# Altium footprint library Connector_Molex.PcbLib: 815 footprints (part 4 of 51)
Each footprint in its own frame and in the unit in brackets; x right, y up, seen from the top. Pads: shape width x height; smd on the part's side, far side on the other; paste and mask are expansions set on the pad; w line width, h text height; cw(c..) or ccw(c..) is an arc to the next point about the centre after c.
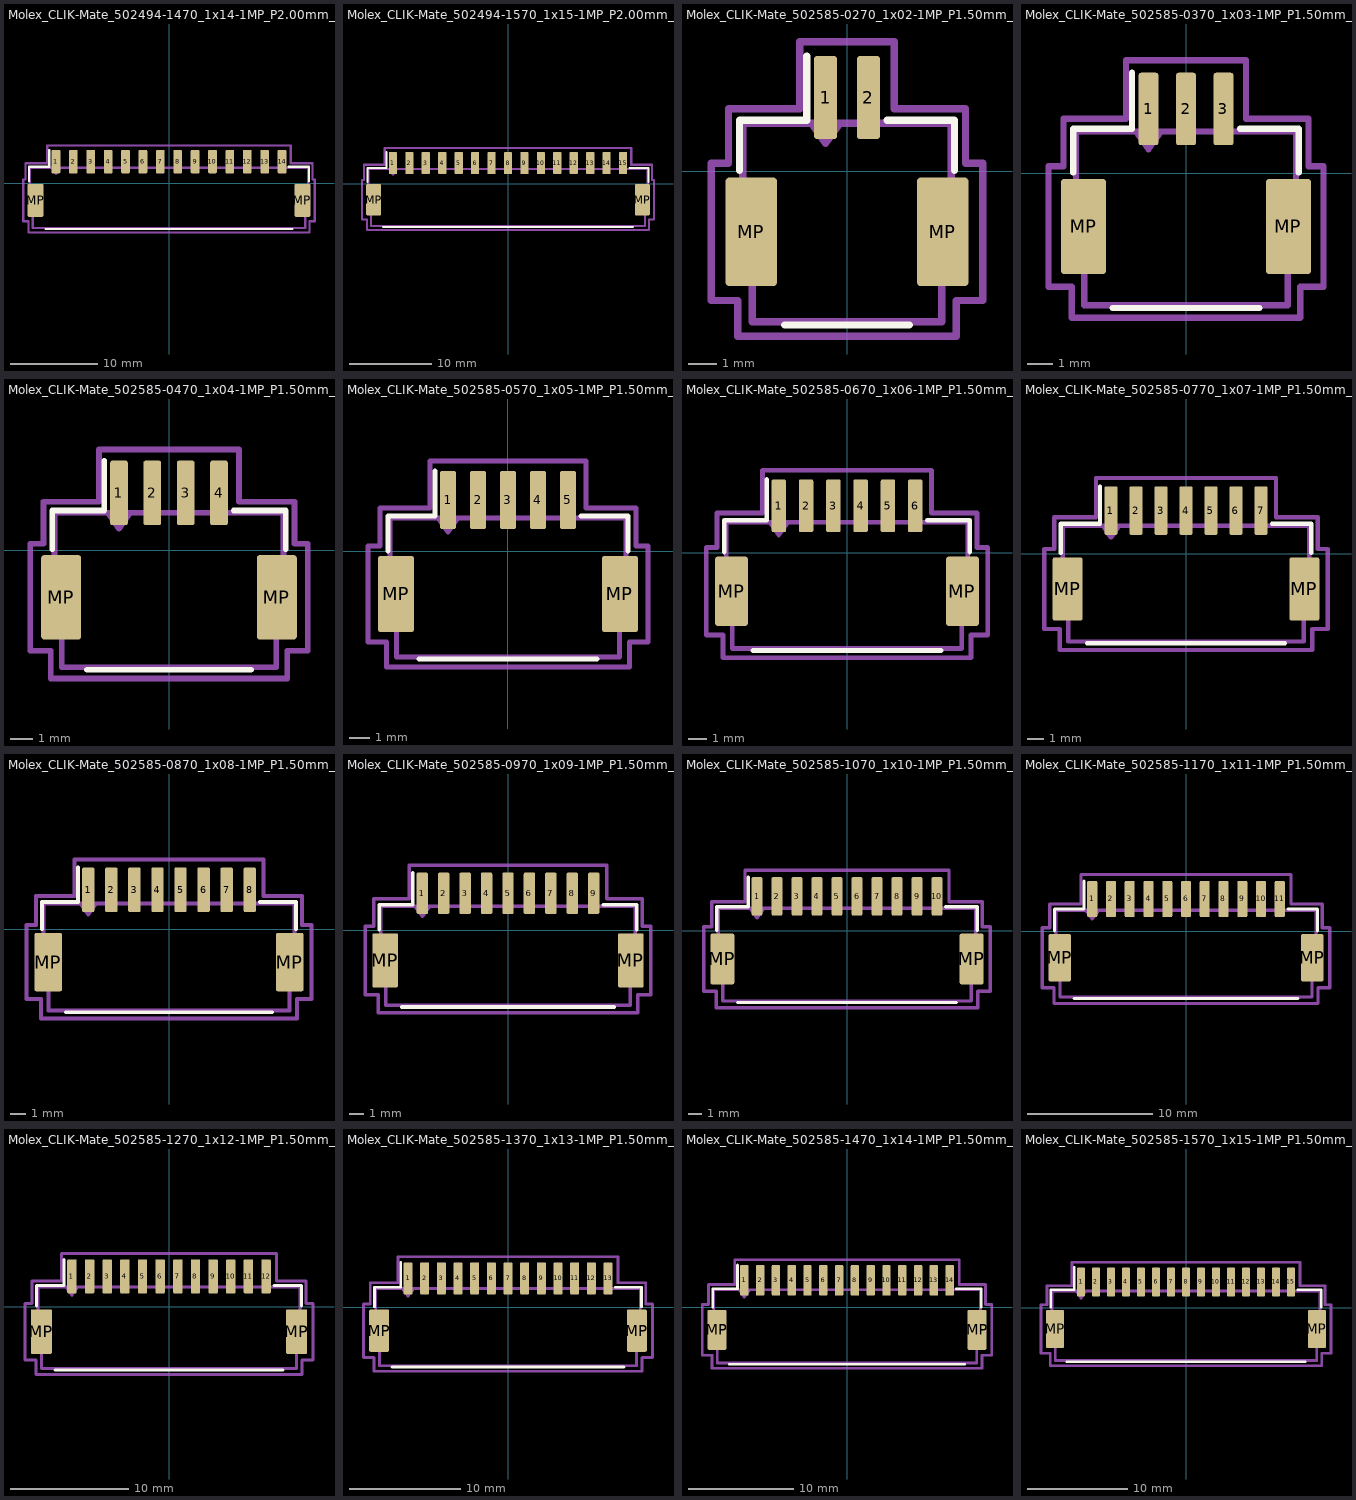
[diagram p3: the footprints below, top view; thin cyan lines are the x and y axes]

## Molex_CLIK-Mate_502494-1470_1x14-1MP_P2.00mm_Horizontal [mm]
pads (16):
  rrect25% 1x2.7 smd: 1(-13,2.5) 2(-11,2.5) 3(-9,2.5) 4(-7,2.5) 5(-5,2.5) 6(-3,2.5) 7(-1,2.5) 8(1,2.5) 9(3,2.5) 10(5,2.5) 11(7,2.5) 12(9,2.5) 13(11,2.5) 14(13,2.5)
  rrect14% 1.8x3.8 smd: MP(-15.35,-1.95) MP(15.35,-1.95)
F.SilkS:
  lines w0.254: -16.11,0.21 -16.11,1.91 -13.76,1.91 -13.76,3.85 ; -14.19,-5.26 14.19,-5.26 ; 13.76,1.91 16.11,1.91 16.11,0.21
Top Assembly:
  lines w0.254: -13.5,1.8 -13,1.093 -12.5,1.8 ; -16,-2.55 -15.67,-2.55 -15.67,-5.15 15.67,-5.15 15.67,-2.55 16,-2.55 16,1.8 -16,1.8 -16,-2.55
  text "'.Designator'" at -4.047,-1.22 h1
Top Courtyard:
  lines w0.254: -16.75,-4.35 -16.17,-4.35 -16.17,-5.65 16.17,-5.65 16.17,-4.35 16.75,-4.35 16.75,0.45 16.5,0.45 16.5,2.3 14,2.3 14,4.35 -14,4.35 -14,2.3 -16.5,2.3 -16.5,0.45 -16.75,0.45 -16.75,-4.35
Top Designator:
  text ".Designator" at -7.618,-1.158 h1.52

## Molex_CLIK-Mate_502494-1570_1x15-1MP_P2.00mm_Horizontal [mm]
pads (17):
  rrect25% 1x2.7 smd: 1(-14,2.5) 2(-12,2.5) 3(-10,2.5) 4(-8,2.5) 5(-6,2.5) 6(-4,2.5) 7(-2,2.5) 8(0,2.5) 9(2,2.5) 10(4,2.5) 11(6,2.5) 12(8,2.5) 13(10,2.5) 14(12,2.5) 15(14,2.5)
  rrect14% 1.8x3.8 smd: MP(-16.35,-1.95) MP(16.35,-1.95)
F.SilkS:
  lines w0.254: -17.11,0.21 -17.11,1.91 -14.76,1.91 -14.76,3.85 ; -15.19,-5.26 15.19,-5.26 ; 14.76,1.91 17.11,1.91 17.11,0.21
Top Assembly:
  lines w0.254: -14.5,1.8 -14,1.093 -13.5,1.8 ; -17,-2.55 -16.67,-2.55 -16.67,-5.15 16.67,-5.15 16.67,-2.55 17,-2.55 17,1.8 -17,1.8 -17,-2.55
  text "'.Designator'" at -4.047,-1.22 h1
Top Courtyard:
  lines w0.254: -17.75,-4.35 -17.17,-4.35 -17.17,-5.65 17.17,-5.65 17.17,-4.35 17.75,-4.35 17.75,0.45 17.5,0.45 17.5,2.3 15,2.3 15,4.35 -15,4.35 -15,2.3 -17.5,2.3 -17.5,0.45 -17.75,0.45 -17.75,-4.35
Top Designator:
  text ".Designator" at -7.618,-1.158 h1.52

## Molex_CLIK-Mate_502585-0270_1x02-1MP_P1.50mm_Horizontal [mm]
pads (4):
  rrect25% 0.8x2.9 smd: 1(-0.75,2.575) 2(0.75,2.575)
  rrect14% 1.8x3.8 smd: MP(-3.35,-2.125) MP(3.35,-2.125)
F.SilkS:
  lines w0.254: -3.76,0.035 -3.76,1.785 -1.41,1.785 -1.41,4.025 ; -2.19,-5.385 2.19,-5.385 ; 1.41,1.785 3.76,1.785 3.76,0.035
Top Assembly:
  lines w0.254: -1.25,1.675 -0.75,0.968 -0.25,1.675 ; -3.65,-2.675 -3.32,-2.675 -3.32,-5.275 3.32,-5.275 3.32,-2.675 3.65,-2.675 3.65,1.675 -3.65,1.675 -3.65,-2.675
  text "'.Designator'" at -4.047,-1.34 h1
Top Courtyard:
  lines w0.254: -4.75,-4.53 -3.82,-4.53 -3.82,-5.78 3.82,-5.78 3.82,-4.53 4.75,-4.53 4.75,0.28 4.15,0.28 4.15,2.18 1.65,2.18 1.65,4.53 -1.65,4.53 -1.65,2.18 -4.15,2.18 -4.15,0.28 -4.75,0.28 -4.75,-4.53
Top Designator:
  text ".Designator" at -7.618,-1.133 h1.52

## Molex_CLIK-Mate_502585-0370_1x03-1MP_P1.50mm_Horizontal [mm]
pads (5):
  rrect25% 0.8x2.9 smd: 1(-1.5,2.575) 2(0,2.575) 3(1.5,2.575)
  rrect14% 1.8x3.8 smd: MP(-4.1,-2.125) MP(4.1,-2.125)
F.SilkS:
  lines w0.254: -4.51,0.035 -4.51,1.785 -2.16,1.785 -2.16,4.025 ; -2.94,-5.385 2.94,-5.385 ; 2.16,1.785 4.51,1.785 4.51,0.035
Top Assembly:
  lines w0.254: -2,1.675 -1.5,0.968 -1,1.675 ; -4.4,-2.675 -4.07,-2.675 -4.07,-5.275 4.07,-5.275 4.07,-2.675 4.4,-2.675 4.4,1.675 -4.4,1.675 -4.4,-2.675
  text "'.Designator'" at -4.047,-1.34 h1
Top Courtyard:
  lines w0.254: -5.5,-4.53 -4.57,-4.53 -4.57,-5.78 4.57,-5.78 4.57,-4.53 5.5,-4.53 5.5,0.28 4.9,0.28 4.9,2.18 2.4,2.18 2.4,4.53 -2.4,4.53 -2.4,2.18 -4.9,2.18 -4.9,0.28 -5.5,0.28 -5.5,-4.53
Top Designator:
  text ".Designator" at -7.618,-1.133 h1.52

## Molex_CLIK-Mate_502585-0470_1x04-1MP_P1.50mm_Horizontal [mm]
pads (6):
  rrect25% 0.8x2.9 smd: 1(-2.25,2.575) 2(-0.75,2.575) 3(0.75,2.575) 4(2.25,2.575)
  rrect14% 1.8x3.8 smd: MP(-4.85,-2.125) MP(4.85,-2.125)
F.SilkS:
  lines w0.254: -5.26,0.035 -5.26,1.785 -2.91,1.785 -2.91,4.025 ; -3.69,-5.385 3.69,-5.385 ; 2.91,1.785 5.26,1.785 5.26,0.035
Top Assembly:
  lines w0.254: -2.75,1.675 -2.25,0.968 -1.75,1.675 ; -5.15,-2.675 -4.82,-2.675 -4.82,-5.275 4.82,-5.275 4.82,-2.675 5.15,-2.675 5.15,1.675 -5.15,1.675 -5.15,-2.675
  text "'.Designator'" at -4.047,-1.34 h1
Top Courtyard:
  lines w0.254: -6.25,-4.53 -5.32,-4.53 -5.32,-5.78 5.32,-5.78 5.32,-4.53 6.25,-4.53 6.25,0.28 5.65,0.28 5.65,2.18 3.15,2.18 3.15,4.53 -3.15,4.53 -3.15,2.18 -5.65,2.18 -5.65,0.28 -6.25,0.28 -6.25,-4.53
Top Designator:
  text ".Designator" at -7.618,-1.133 h1.52

## Molex_CLIK-Mate_502585-0570_1x05-1MP_P1.50mm_Horizontal [mm]
pads (7):
  rrect25% 0.8x2.9 smd: 1(-3,2.575) 2(-1.5,2.575) 3(0,2.575) 4(1.5,2.575) 5(3,2.575)
  rrect14% 1.8x3.8 smd: MP(-5.6,-2.125) MP(5.6,-2.125)
F.SilkS:
  lines w0.254: -6.01,0.035 -6.01,1.785 -3.66,1.785 -3.66,4.025 ; -4.44,-5.385 4.44,-5.385 ; 3.66,1.785 6.01,1.785 6.01,0.035
Top Assembly:
  lines w0.254: -3.5,1.675 -3,0.968 -2.5,1.675 ; -5.9,-2.675 -5.57,-2.675 -5.57,-5.275 5.57,-5.275 5.57,-2.675 5.9,-2.675 5.9,1.675 -5.9,1.675 -5.9,-2.675
  text "'.Designator'" at -4.047,-1.34 h1
Top Courtyard:
  lines w0.254: -7,-4.53 -6.07,-4.53 -6.07,-5.78 6.07,-5.78 6.07,-4.53 7,-4.53 7,0.28 6.4,0.28 6.4,2.18 3.9,2.18 3.9,4.53 -3.9,4.53 -3.9,2.18 -6.4,2.18 -6.4,0.28 -7,0.28 -7,-4.53
Top Designator:
  text ".Designator" at -7.618,-1.133 h1.52

## Molex_CLIK-Mate_502585-0670_1x06-1MP_P1.50mm_Horizontal [mm]
pads (8):
  rrect25% 0.8x2.9 smd: 1(-3.75,2.575) 2(-2.25,2.575) 3(-0.75,2.575) 4(0.75,2.575) 5(2.25,2.575) 6(3.75,2.575)
  rrect14% 1.8x3.8 smd: MP(-6.35,-2.125) MP(6.35,-2.125)
F.SilkS:
  lines w0.254: -6.76,0.035 -6.76,1.785 -4.41,1.785 -4.41,4.025 ; -5.19,-5.385 5.19,-5.385 ; 4.41,1.785 6.76,1.785 6.76,0.035
Top Assembly:
  lines w0.254: -4.25,1.675 -3.75,0.968 -3.25,1.675 ; -6.65,-2.675 -6.32,-2.675 -6.32,-5.275 6.32,-5.275 6.32,-2.675 6.65,-2.675 6.65,1.675 -6.65,1.675 -6.65,-2.675
  text "'.Designator'" at -4.047,-1.34 h1
Top Courtyard:
  lines w0.254: -7.75,-4.53 -6.82,-4.53 -6.82,-5.78 6.82,-5.78 6.82,-4.53 7.75,-4.53 7.75,0.28 7.15,0.28 7.15,2.18 4.65,2.18 4.65,4.53 -4.65,4.53 -4.65,2.18 -7.15,2.18 -7.15,0.28 -7.75,0.28 -7.75,-4.53
Top Designator:
  text ".Designator" at -7.618,-1.133 h1.52

## Molex_CLIK-Mate_502585-0770_1x07-1MP_P1.50mm_Horizontal [mm]
pads (9):
  rrect25% 0.8x2.9 smd: 1(-4.5,2.575) 2(-3,2.575) 3(-1.5,2.575) 4(0,2.575) 5(1.5,2.575) 6(3,2.575) 7(4.5,2.575)
  rrect14% 1.8x3.8 smd: MP(-7.1,-2.125) MP(7.1,-2.125)
F.SilkS:
  lines w0.254: -7.51,0.035 -7.51,1.785 -5.16,1.785 -5.16,4.025 ; -5.94,-5.385 5.94,-5.385 ; 5.16,1.785 7.51,1.785 7.51,0.035
Top Assembly:
  lines w0.254: -5,1.675 -4.5,0.968 -4,1.675 ; -7.4,-2.675 -7.07,-2.675 -7.07,-5.275 7.07,-5.275 7.07,-2.675 7.4,-2.675 7.4,1.675 -7.4,1.675 -7.4,-2.675
  text "'.Designator'" at -4.047,-1.34 h1
Top Courtyard:
  lines w0.254: -8.5,-4.53 -7.57,-4.53 -7.57,-5.78 7.57,-5.78 7.57,-4.53 8.5,-4.53 8.5,0.28 7.9,0.28 7.9,2.18 5.4,2.18 5.4,4.53 -5.4,4.53 -5.4,2.18 -7.9,2.18 -7.9,0.28 -8.5,0.28 -8.5,-4.53
Top Designator:
  text ".Designator" at -7.618,-1.133 h1.52

## Molex_CLIK-Mate_502585-0870_1x08-1MP_P1.50mm_Horizontal [mm]
pads (10):
  rrect25% 0.8x2.9 smd: 1(-5.25,2.575) 2(-3.75,2.575) 3(-2.25,2.575) 4(-0.75,2.575) 5(0.75,2.575) 6(2.25,2.575) 7(3.75,2.575) 8(5.25,2.575)
  rrect14% 1.8x3.8 smd: MP(-7.85,-2.125) MP(7.85,-2.125)
F.SilkS:
  lines w0.254: -8.26,0.035 -8.26,1.785 -5.91,1.785 -5.91,4.025 ; -6.69,-5.385 6.69,-5.385 ; 5.91,1.785 8.26,1.785 8.26,0.035
Top Assembly:
  lines w0.254: -5.75,1.675 -5.25,0.968 -4.75,1.675 ; -8.15,-2.675 -7.82,-2.675 -7.82,-5.275 7.82,-5.275 7.82,-2.675 8.15,-2.675 8.15,1.675 -8.15,1.675 -8.15,-2.675
  text "'.Designator'" at -4.047,-1.34 h1
Top Courtyard:
  lines w0.254: -9.25,-4.53 -8.32,-4.53 -8.32,-5.78 8.32,-5.78 8.32,-4.53 9.25,-4.53 9.25,0.28 8.65,0.28 8.65,2.18 6.15,2.18 6.15,4.53 -6.15,4.53 -6.15,2.18 -8.65,2.18 -8.65,0.28 -9.25,0.28 -9.25,-4.53
Top Designator:
  text ".Designator" at -7.618,-1.133 h1.52

## Molex_CLIK-Mate_502585-0970_1x09-1MP_P1.50mm_Horizontal [mm]
pads (11):
  rrect25% 0.8x2.9 smd: 1(-6,2.575) 2(-4.5,2.575) 3(-3,2.575) 4(-1.5,2.575) 5(0,2.575) 6(1.5,2.575) 7(3,2.575) 8(4.5,2.575) 9(6,2.575)
  rrect14% 1.8x3.8 smd: MP(-8.6,-2.125) MP(8.6,-2.125)
F.SilkS:
  lines w0.254: -9.01,0.035 -9.01,1.785 -6.66,1.785 -6.66,4.025 ; -7.44,-5.385 7.44,-5.385 ; 6.66,1.785 9.01,1.785 9.01,0.035
Top Assembly:
  lines w0.254: -6.5,1.675 -6,0.968 -5.5,1.675 ; -8.9,-2.675 -8.57,-2.675 -8.57,-5.275 8.57,-5.275 8.57,-2.675 8.9,-2.675 8.9,1.675 -8.9,1.675 -8.9,-2.675
  text "'.Designator'" at -4.047,-1.34 h1
Top Courtyard:
  lines w0.254: -10,-4.53 -9.07,-4.53 -9.07,-5.78 9.07,-5.78 9.07,-4.53 10,-4.53 10,0.28 9.4,0.28 9.4,2.18 6.9,2.18 6.9,4.53 -6.9,4.53 -6.9,2.18 -9.4,2.18 -9.4,0.28 -10,0.28 -10,-4.53
Top Designator:
  text ".Designator" at -7.618,-1.133 h1.52

## Molex_CLIK-Mate_502585-1070_1x10-1MP_P1.50mm_Horizontal [mm]
pads (12):
  rrect25% 0.8x2.9 smd: 1(-6.75,2.575) 2(-5.25,2.575) 3(-3.75,2.575) 4(-2.25,2.575) 5(-0.75,2.575) 6(0.75,2.575) 7(2.25,2.575) 8(3.75,2.575) 9(5.25,2.575) 10(6.75,2.575)
  rrect14% 1.8x3.8 smd: MP(-9.35,-2.125) MP(9.35,-2.125)
F.SilkS:
  lines w0.254: -9.76,0.035 -9.76,1.785 -7.41,1.785 -7.41,4.025 ; -8.19,-5.385 8.19,-5.385 ; 7.41,1.785 9.76,1.785 9.76,0.035
Top Assembly:
  lines w0.254: -7.25,1.675 -6.75,0.968 -6.25,1.675 ; -9.65,-2.675 -9.32,-2.675 -9.32,-5.275 9.32,-5.275 9.32,-2.675 9.65,-2.675 9.65,1.675 -9.65,1.675 -9.65,-2.675
  text "'.Designator'" at -4.047,-1.34 h1
Top Courtyard:
  lines w0.254: -10.75,-4.53 -9.82,-4.53 -9.82,-5.78 9.82,-5.78 9.82,-4.53 10.75,-4.53 10.75,0.28 10.15,0.28 10.15,2.18 7.65,2.18 7.65,4.53 -7.65,4.53 -7.65,2.18 -10.15,2.18 -10.15,0.28 -10.75,0.28 -10.75,-4.53
Top Designator:
  text ".Designator" at -7.618,-1.133 h1.52

## Molex_CLIK-Mate_502585-1170_1x11-1MP_P1.50mm_Horizontal [mm]
pads (13):
  rrect25% 0.8x2.9 smd: 1(-7.5,2.575) 2(-6,2.575) 3(-4.5,2.575) 4(-3,2.575) 5(-1.5,2.575) 6(0,2.575) 7(1.5,2.575) 8(3,2.575) 9(4.5,2.575) 10(6,2.575) 11(7.5,2.575)
  rrect14% 1.8x3.8 smd: MP(-10.1,-2.125) MP(10.1,-2.125)
F.SilkS:
  lines w0.254: -10.51,0.035 -10.51,1.785 -8.16,1.785 -8.16,4.025 ; -8.94,-5.385 8.94,-5.385 ; 8.16,1.785 10.51,1.785 10.51,0.035
Top Assembly:
  lines w0.254: -8,1.675 -7.5,0.968 -7,1.675 ; -10.4,-2.675 -10.07,-2.675 -10.07,-5.275 10.07,-5.275 10.07,-2.675 10.4,-2.675 10.4,1.675 -10.4,1.675 -10.4,-2.675
  text "'.Designator'" at -4.047,-1.34 h1
Top Courtyard:
  lines w0.254: -11.5,-4.53 -10.57,-4.53 -10.57,-5.78 10.57,-5.78 10.57,-4.53 11.5,-4.53 11.5,0.28 10.9,0.28 10.9,2.18 8.4,2.18 8.4,4.53 -8.4,4.53 -8.4,2.18 -10.9,2.18 -10.9,0.28 -11.5,0.28 -11.5,-4.53
Top Designator:
  text ".Designator" at -7.618,-1.133 h1.52

## Molex_CLIK-Mate_502585-1270_1x12-1MP_P1.50mm_Horizontal [mm]
pads (14):
  rrect25% 0.8x2.9 smd: 1(-8.25,2.575) 2(-6.75,2.575) 3(-5.25,2.575) 4(-3.75,2.575) 5(-2.25,2.575) 6(-0.75,2.575) 7(0.75,2.575) 8(2.25,2.575) 9(3.75,2.575) 10(5.25,2.575) 11(6.75,2.575) 12(8.25,2.575)
  rrect14% 1.8x3.8 smd: MP(-10.85,-2.125) MP(10.85,-2.125)
F.SilkS:
  lines w0.254: -11.26,0.035 -11.26,1.785 -8.91,1.785 -8.91,4.025 ; -9.69,-5.385 9.69,-5.385 ; 8.91,1.785 11.26,1.785 11.26,0.035
Top Assembly:
  lines w0.254: -8.75,1.675 -8.25,0.968 -7.75,1.675 ; -11.15,-2.675 -10.82,-2.675 -10.82,-5.275 10.82,-5.275 10.82,-2.675 11.15,-2.675 11.15,1.675 -11.15,1.675 -11.15,-2.675
  text "'.Designator'" at -4.047,-1.34 h1
Top Courtyard:
  lines w0.254: -12.25,-4.53 -11.32,-4.53 -11.32,-5.78 11.32,-5.78 11.32,-4.53 12.25,-4.53 12.25,0.28 11.65,0.28 11.65,2.18 9.15,2.18 9.15,4.53 -9.15,4.53 -9.15,2.18 -11.65,2.18 -11.65,0.28 -12.25,0.28 -12.25,-4.53
Top Designator:
  text ".Designator" at -7.618,-1.133 h1.52

## Molex_CLIK-Mate_502585-1370_1x13-1MP_P1.50mm_Horizontal [mm]
pads (15):
  rrect25% 0.8x2.9 smd: 1(-9,2.575) 2(-7.5,2.575) 3(-6,2.575) 4(-4.5,2.575) 5(-3,2.575) 6(-1.5,2.575) 7(0,2.575) 8(1.5,2.575) 9(3,2.575) 10(4.5,2.575) 11(6,2.575) 12(7.5,2.575) 13(9,2.575)
  rrect14% 1.8x3.8 smd: MP(-11.6,-2.125) MP(11.6,-2.125)
F.SilkS:
  lines w0.254: -12.01,0.035 -12.01,1.785 -9.66,1.785 -9.66,4.025 ; -10.44,-5.385 10.44,-5.385 ; 9.66,1.785 12.01,1.785 12.01,0.035
Top Assembly:
  lines w0.254: -9.5,1.675 -9,0.968 -8.5,1.675 ; -11.9,-2.675 -11.57,-2.675 -11.57,-5.275 11.57,-5.275 11.57,-2.675 11.9,-2.675 11.9,1.675 -11.9,1.675 -11.9,-2.675
  text "'.Designator'" at -4.047,-1.34 h1
Top Courtyard:
  lines w0.254: -13,-4.53 -12.07,-4.53 -12.07,-5.78 12.07,-5.78 12.07,-4.53 13,-4.53 13,0.28 12.4,0.28 12.4,2.18 9.9,2.18 9.9,4.53 -9.9,4.53 -9.9,2.18 -12.4,2.18 -12.4,0.28 -13,0.28 -13,-4.53
Top Designator:
  text ".Designator" at -7.618,-1.133 h1.52

## Molex_CLIK-Mate_502585-1470_1x14-1MP_P1.50mm_Horizontal [mm]
pads (16):
  rrect25% 0.8x2.9 smd: 1(-9.75,2.575) 2(-8.25,2.575) 3(-6.75,2.575) 4(-5.25,2.575) 5(-3.75,2.575) 6(-2.25,2.575) 7(-0.75,2.575) 8(0.75,2.575) 9(2.25,2.575) 10(3.75,2.575) 11(5.25,2.575) 12(6.75,2.575) 13(8.25,2.575) 14(9.75,2.575)
  rrect14% 1.8x3.8 smd: MP(-12.35,-2.125) MP(12.35,-2.125)
F.SilkS:
  lines w0.254: -12.76,0.035 -12.76,1.785 -10.41,1.785 -10.41,4.025 ; -11.19,-5.385 11.19,-5.385 ; 10.41,1.785 12.76,1.785 12.76,0.035
Top Assembly:
  lines w0.254: -10.25,1.675 -9.75,0.968 -9.25,1.675 ; -12.65,-2.675 -12.32,-2.675 -12.32,-5.275 12.32,-5.275 12.32,-2.675 12.65,-2.675 12.65,1.675 -12.65,1.675 -12.65,-2.675
  text "'.Designator'" at -4.047,-1.34 h1
Top Courtyard:
  lines w0.254: -13.75,-4.53 -12.82,-4.53 -12.82,-5.78 12.82,-5.78 12.82,-4.53 13.75,-4.53 13.75,0.28 13.15,0.28 13.15,2.18 10.65,2.18 10.65,4.53 -10.65,4.53 -10.65,2.18 -13.15,2.18 -13.15,0.28 -13.75,0.28 -13.75,-4.53
Top Designator:
  text ".Designator" at -7.618,-1.133 h1.52

## Molex_CLIK-Mate_502585-1570_1x15-1MP_P1.50mm_Horizontal [mm]
pads (17):
  rrect25% 0.8x2.9 smd: 1(-10.5,2.575) 2(-9,2.575) 3(-7.5,2.575) 4(-6,2.575) 5(-4.5,2.575) 6(-3,2.575) 7(-1.5,2.575) 8(0,2.575) 9(1.5,2.575) 10(3,2.575) 11(4.5,2.575) 12(6,2.575) 13(7.5,2.575) 14(9,2.575) 15(10.5,2.575)
  rrect14% 1.8x3.8 smd: MP(-13.1,-2.125) MP(13.1,-2.125)
F.SilkS:
  lines w0.254: -13.51,0.035 -13.51,1.785 -11.16,1.785 -11.16,4.025 ; -11.94,-5.385 11.94,-5.385 ; 11.16,1.785 13.51,1.785 13.51,0.035
Top Assembly:
  lines w0.254: -11,1.675 -10.5,0.968 -10,1.675 ; -13.4,-2.675 -13.07,-2.675 -13.07,-5.275 13.07,-5.275 13.07,-2.675 13.4,-2.675 13.4,1.675 -13.4,1.675 -13.4,-2.675
  text "'.Designator'" at -4.047,-1.34 h1
Top Courtyard:
  lines w0.254: -14.5,-4.53 -13.57,-4.53 -13.57,-5.78 13.57,-5.78 13.57,-4.53 14.5,-4.53 14.5,0.28 13.9,0.28 13.9,2.18 11.4,2.18 11.4,4.53 -11.4,4.53 -11.4,2.18 -13.9,2.18 -13.9,0.28 -14.5,0.28 -14.5,-4.53
Top Designator:
  text ".Designator" at -7.618,-1.133 h1.52